# Altium schematic symbol library sar20-afbr-s50-adapter.SchLib: 4 symbols
Pins are listed as number, name and electrical type; pins without a type are passive.

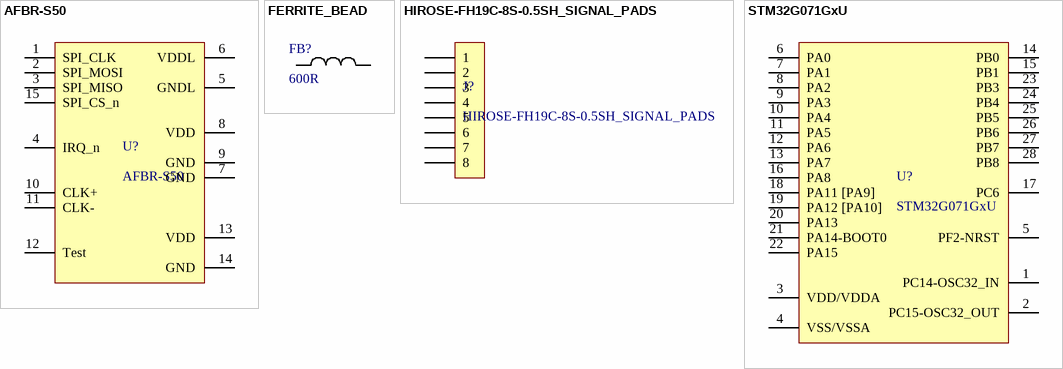
[diagram p0: symbols AFBR-S50 to STM32G071GxU]

## AFBR-S50
designator U?
footprint AFBR-S50
pins: 1 SPI_CLK, 2 SPI_MOSI, 3 SPI_MISO, 4 IRQ_n, 5 GNDL, 6 VDDL, 7 GND, 8 VDD, 9 GND, 10 CLK+, 11 CLK-, 12 Test, 13 VDD, 14 GND, 15 SPI_CS_n

## FERRITE_BEAD
designator FB?, comment 600R
Value: 600R
footprint RESC1005X40N (Chip Resistor, Body 1.0x0.5mm, EIA 0402, IPC Medium Density)
pins: 1, 2

## HIROSE-FH19C-8S-0.5SH_SIGNAL_PADS
designator J?
footprint HIROSE-FH19C-8S-0.5SH_SIGNAL_PADS
pins: 1, 2, 3, 4, 5, 6, 7, 8

## STM32G071GxU
designator U?
footprint QFN50P400X400X60-28N (QFN, 28-Leads, Body 4,00x4,00mm, Pitch 0,50mm, IPC Medium Density)
pins: 1 PC14-OSC32_IN, 2 PC15-OSC32_OUT, 3 VDD/VDDA, 4 VSS/VSSA, 5 PF2-NRST, 6 PA0, 7 PA1, 8 PA2, 9 PA3, 10 PA4, 11 PA5, 12 PA6, 13 PA7, 14 PB0, 15 PB1, 16 PA8, 17 PC6, 18 PA11 [PA9], 19 PA12 [PA10], 20 PA13, 21 PA14-BOOT0, 22 PA15, 23 PB3, 24 PB4, 25 PB5, 26 PB6, 27 PB7, 28 PB8